# Altium footprint library EwgHybrid.PCBLIB: 18 footprints (part 1 of 2)
Each footprint in its own frame and in the unit in brackets; x right, y up, seen from the top. Pads: shape width x height; smd on the part's side, far side on the other; paste and mask are expansions set on the pad; w line width, h text height; cw(c..) or ccw(c..) is an arc to the next point about the centre after c.
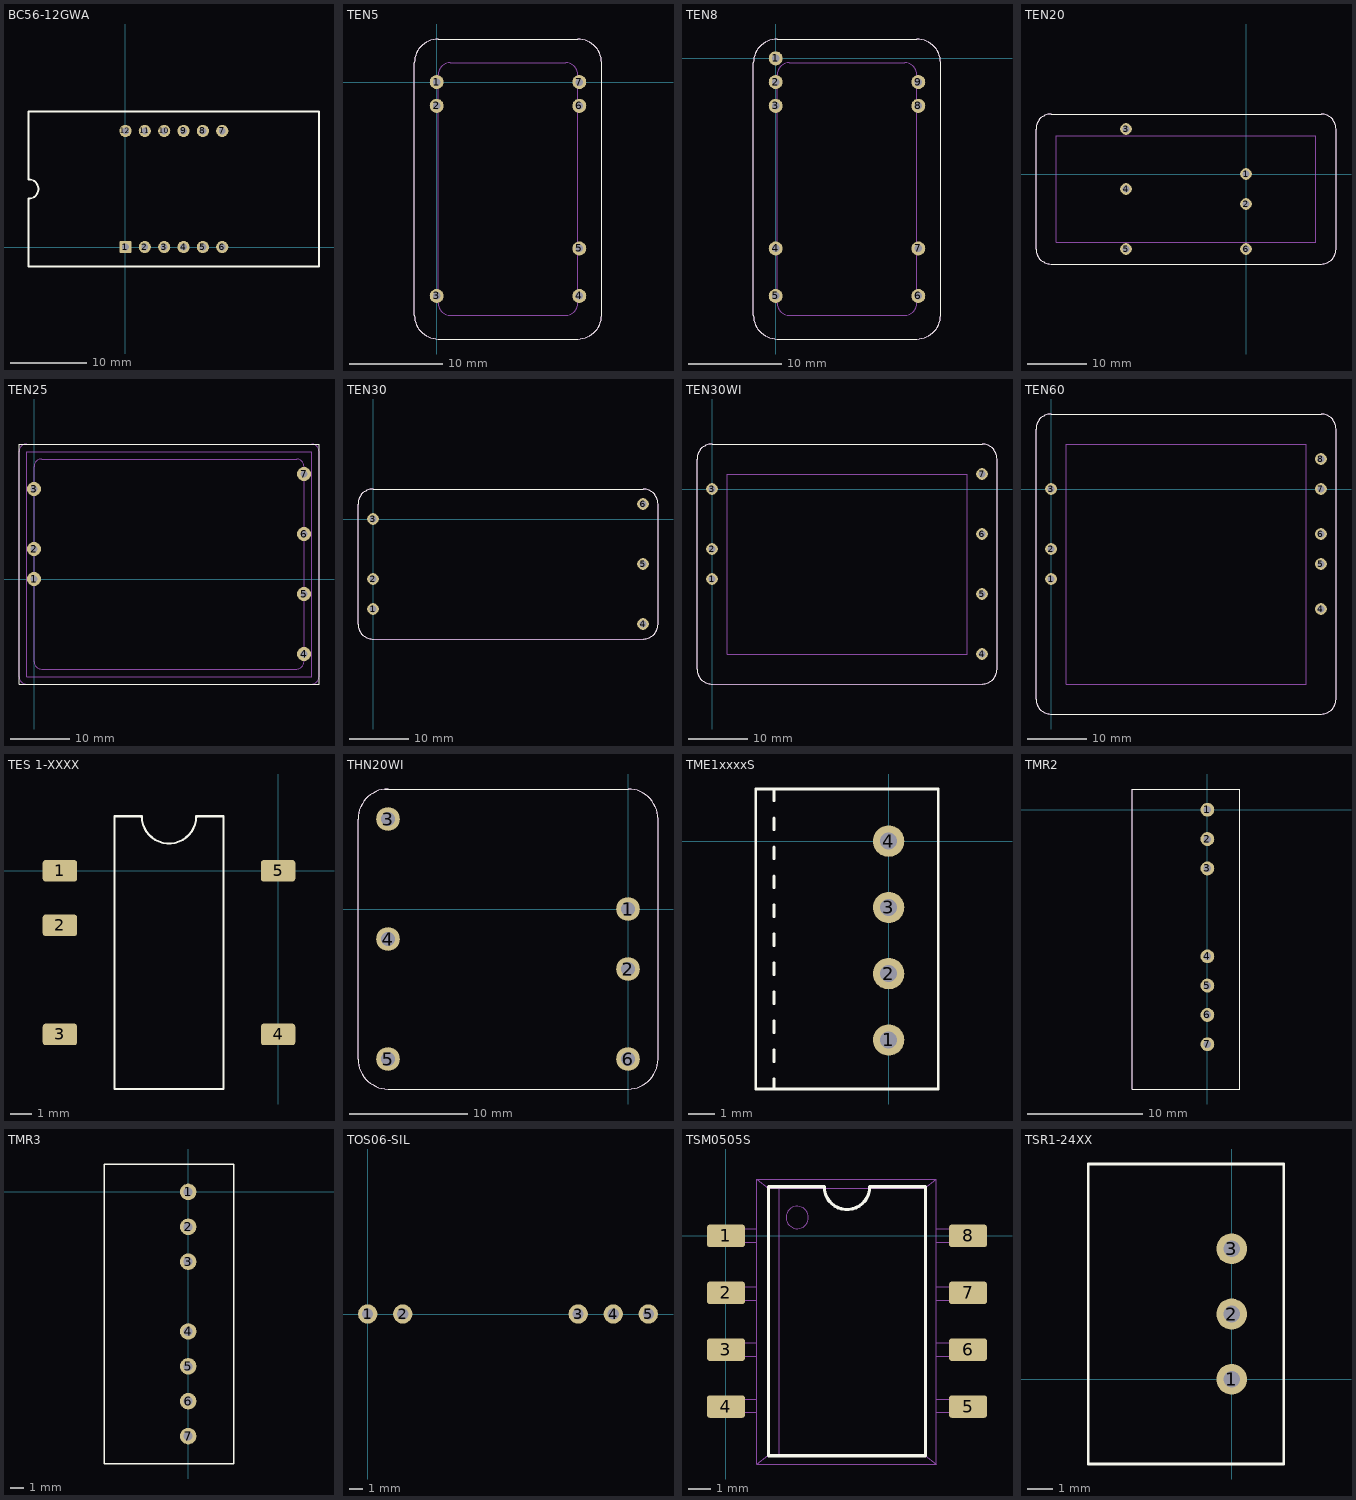
[diagram p0: the footprints below, top view; thin cyan lines are the x and y axes]

## BC56-12GWA [mm]
pads (12):
  rrect25% 1.6x1.6 hole 0.9: 1(0,0)
  round 1.6 hole 0.9: 2(2.54,0) 3(5.08,0) 4(7.62,0) 5(10.16,0) 6(12.7,0) 7(12.7,15.24) 8(10.16,15.24) 9(7.62,15.24) 10(5.08,15.24) 11(2.54,15.24) 12(0,15.24)
Top Overlay:
  lines w0.254: -12.7,-2.54 -12.7,6.35 ccw(c-12.7,7.62) -12.7,8.89 -12.7,17.78 25.4,17.78 25.4,-2.54 -12.7,-2.54

## TEN5 [mm]
pads (7):
  round 1.5 hole 0.8: 1(0,0) 2(0,-2.54) 3(0,-22.86) 4(15.24,-22.86) 5(15.24,-17.78) 6(15.24,-2.54) 7(15.24,0)
Top Overlay:
  lines w0.1: -2.381,-24.924 ccw(c0.159,-24.924) 0.159,-27.464 15.081,-27.464 ccw(c15.081,-24.924) 17.621,-24.924 17.621,2.064 ccw(c15.081,2.064) 15.081,4.604 0.159,4.604 ccw(c0.159,2.064) -2.381,2.064 -2.381,-24.924
Mechanical 1:
  lines w0.05: -2.381,-24.924 ccw(c0.159,-24.924) 0.159,-27.464 15.081,-27.464 ccw(c15.081,-24.924) 17.621,-24.924 17.621,2.064 ccw(c15.081,2.064) 15.081,4.604 0.159,4.604 ccw(c0.159,2.064) -2.381,2.064 -2.381,-24.924 ; 0.159,-23.654 ccw(c1.429,-23.654) 1.429,-24.924 13.811,-24.924 ccw(c13.811,-23.654) 15.081,-23.654 15.081,0.794 ccw(c13.811,0.794) 13.811,2.064 1.429,2.064 ccw(c1.429,0.794) 0.159,0.794 0.159,-23.654
  text "TRACO" at 7.322,-16.226 h3.17
  text "POWER" at 10.795,-16.226 h3.17
3D body: height 10.06, standoff -2, extent -2.4,-27.4 17.6,4.6

## TEN8 [mm]
pads (9):
  round 1.5 hole 0.8: 1(0,0) 2(0,-2.54) 3(0,-5.08) 4(0,-20.32) 5(0,-25.4) 6(15.24,-25.4) 7(15.24,-20.32) 8(15.24,-5.08) 9(15.24,-2.54)
Top Overlay:
  lines w0.1: -2.381,-27.464 ccw(c0.159,-27.464) 0.159,-30.004 15.081,-30.004 ccw(c15.081,-27.464) 17.621,-27.464 17.621,-0.476 ccw(c15.081,-0.476) 15.081,2.064 0.159,2.064 ccw(c0.159,-0.476) -2.381,-0.476 -2.381,-27.464
Mechanical 1:
  lines w0.05: -2.381,-27.464 ccw(c0.159,-27.464) 0.159,-30.004 15.081,-30.004 ccw(c15.081,-27.464) 17.621,-27.464 17.621,-0.476 ccw(c15.081,-0.476) 15.081,2.064 0.159,2.064 ccw(c0.159,-0.476) -2.381,-0.476 -2.381,-27.464 ; 0.159,-26.194 ccw(c1.429,-26.194) 1.429,-27.464 13.811,-27.464 ccw(c13.811,-26.194) 15.081,-26.194 15.081,-1.746 ccw(c13.811,-1.746) 13.811,-0.476 1.429,-0.476 ccw(c1.429,-1.746) 0.159,-1.746 0.159,-26.194
  text "TRACO" at 7.322,-18.766 h3.17
  text "POWER" at 10.795,-18.766 h3.17

## TEN20 [mm]
pads (6):
  round 2 hole 1.2: 1(0,0) 2(0,-5.08) 3(-20.32,7.62) 4(-20.32,-2.54) 5(-20.32,-12.7) 6(0,-12.7)
Top Overlay:
  lines w0.1: -35.56,-12.7 ccw(c-33.02,-12.7) -33.02,-15.24 12.7,-15.24 ccw(c12.7,-12.7) 15.24,-12.7 15.24,7.62 ccw(c12.7,7.62) 12.7,10.16 -33.02,10.16 ccw(c-33.02,7.62) -35.56,7.62 -35.56,-12.7
Mechanical 1:
  lines w0.05: -35.56,-12.7 ccw(c-33.02,-12.7) -33.02,-15.24 12.7,-15.24 ccw(c12.7,-12.7) 15.24,-12.7 15.24,7.62 ccw(c12.7,7.62) 12.7,10.16 -33.02,10.16 ccw(c-33.02,7.62) -35.56,7.62 -35.56,-12.7 ; -32.16,-11.54 -32.16,6.46 11.84,6.46 11.84,-11.54 -32.16,-11.54
  text "TRACO POWER" at -16.16,1.741 h3
  text "TEN20" at -16.16,-1.54 h3
3D body: height 10.21, standoff -6, extent -35.56,-15.24 15.24,10.16

## TEN25 [mm]
pads (7):
  round 2.4 hole 1.2: 1(0,0) 2(0,5.08) 3(0,15.24) 4(45.72,-12.7) 5(45.72,-2.54) 6(45.72,7.62) 7(45.72,17.78)
Top Overlay:
  lines w0.1: -2.54,-17.78 48.26,-17.78 48.26,22.86 -2.54,22.86 -2.54,-17.78
Mechanical 1:
  lines w0.05: -2.54,-16.51 ccw(c-1.27,-16.51) -1.27,-17.78 46.99,-17.78 ccw(c46.99,-16.51) 48.26,-16.51 48.26,21.59 ccw(c46.99,21.59) 46.99,22.86 -1.27,22.86 ccw(c-1.27,21.59) -2.54,21.59 -2.54,-16.51 ; -1.27,-16.51 46.99,-16.51 46.99,21.59 -1.27,21.59 -1.27,-16.51 ; 0,-13.97 ccw(c1.27,-13.97) 1.27,-15.24 44.45,-15.24 ccw(c44.45,-13.97) 45.72,-13.97 45.72,19.05 ccw(c44.45,19.05) 44.45,20.32 1.27,20.32 ccw(c1.27,19.05) 0,19.05 0,-13.97
  text "POWER" at 14.718,6.843 h5
  text "TRACO" at 14.718,12.311 h5

## TEN30 [mm]
pads (6):
  round 2 hole 1.2: 1(0,-15.24) 2(0,-10.16) 3(0,0) 4(45.72,-17.78) 5(45.72,-7.62) 6(45.72,2.54)
Top Overlay:
  lines w0.1: 45.72,-20.32 ccw(c45.72,-17.78) 48.26,-17.78 48.26,2.54 ccw(c45.72,2.54) 45.72,5.08 0,5.08 ccw(c0,2.54) -2.54,2.54 -2.54,-17.78 ccw(c0,-17.78) 0,-20.32 45.72,-20.3
Mechanical 1:
  lines w0.05: -2.54,-17.78 ccw(c0,-17.78) 0,-20.32 45.72,-20.32 ccw(c45.72,-17.78) 48.26,-17.78 48.26,2.54 ccw(c45.72,2.54) 45.72,5.08 0,5.08 ccw(c0,2.54) -2.54,2.54 -2.54,-17.78
  text "TEN 30" at 10.16,-7.62 h3
  text "TRACO POWER" at 10.16,-4.339 h3
3D body: height 10.2, standoff -5.6, extent -2.54,-20.47 48.26,5.23

## TEN30WI [mm]
pads (7):
  round 2 hole 1.2: 1(0,-15.24) 2(0,-10.16) 3(0,0) 4(45.72,-27.94) 5(45.72,-17.78) 6(45.72,-7.62) 7(45.72,2.54)
Top Overlay:
  lines w0.1: 45.72,-33.02 ccw(c45.72,-30.48) 48.26,-30.48 48.26,5.08 ccw(c45.72,5.08) 45.72,7.62 0,7.62 ccw(c0,5.08) -2.54,5.08 -2.54,-30.48 ccw(c0,-30.48) 0,-33.02 45.72,-33
Mechanical 1:
  lines w0.05: -2.54,-30.48 ccw(c0,-30.48) 0,-33.02 45.72,-33.02 ccw(c45.72,-30.48) 48.26,-30.48 48.26,5.08 ccw(c45.72,5.08) 45.72,7.62 0,7.62 ccw(c0,5.08) -2.54,5.08 -2.54,-30.48
  lines w0.1: 2.54,-27.94 2.54,2.54 43.18,2.54 43.18,-27.94 2.54,-27.94
  text "TRACO POWER" at 10.16,-4.339 h3
  text "TEN 30WI" at 10.16,-7.62 h3

## TEN60 [mm]
pads (8):
  round 2 hole 1.2: 1(0.01,-15.24) 2(0.01,-10.16) 3(0.01,0) 4(45.71,-20.32) 5(45.71,-12.7) 6(45.71,-7.62) 7(45.71,0) 8(45.71,5.08)
Top Overlay:
  lines w0.1: -2.54,-35.56 ccw(c0,-35.56) 0,-38.1 45.72,-38.1 ccw(c45.72,-35.56) 48.26,-35.56 48.26,10.16 ccw(c45.72,10.16) 45.72,12.7 0,12.7 ccw(c0,10.16) -2.54,10.16 -2.54,-35.56
Mechanical 1:
  lines w0.05: -2.54,-35.56 ccw(c0,-35.56) 0,-38.1 45.72,-38.1 ccw(c45.72,-35.56) 48.26,-35.56 48.26,10.16 ccw(c45.72,10.16) 45.72,12.7 0,12.7 ccw(c0,10.16) -2.54,10.16 -2.54,-35.56 ; 2.54,-33.02 43.18,-33.02 43.18,7.62 2.54,7.62 2.54,-33.02
  text "TEN60" at 10.16,-2.54 h3
  text "TRACO POWER" at 10.16,0.741 h3

## TES 1-XXXX [mm]
pads (5):
  rrect25% 1.6x1 smd: 1(-10.16,0) 2(-10.16,-2.54) 3(-10.16,-7.62) 4(0,-7.62) 5(0,0)
Top Overlay:
  lines w0.1: -7.62,-10.16 -2.54,-10.16 -2.54,2.54 -3.81,2.54 cw(c-5.08,2.54) -6.35,2.54 -7.62,2.54 -7.62,-10.16
3D body: height 7.05, standoff 0, extent -10.58,-10.66 0.42,3.04

## THN20WI [mm]
height 10.2
pads (6):
  round 2 hole 1.2: 1(0,0) 2(0,-5.08) 3(-20.32,7.62) 4(-20.32,-2.54) 5(-20.32,-12.7) 6(0,-12.7)
Top Overlay:
  lines w0.1: -20.575,10.16 0,10.16 cw(c0,7.62) 2.54,7.62 2.54,-12.7 cw(c0,-12.7) 0,-15.24 -20.32,-15.24 cw(c-20.32,-12.7) -22.86,-12.7 -22.86,7.62 cw(c-20.32,7.62) -20.32,10.16
Mechanical 1:
  lines w0.05: -22.86,-12.7 ccw(c-20.32,-12.7) -20.32,-15.24 ; -22.86,7.62 cw(c-20.32,7.62) -20.32,10.16
  lines w0.1: -20.575,10.16 0,10.16 cw(c0,7.62) 2.54,7.62 2.54,-12.7 cw(c0,-12.7) 0,-15.24 -20.32,-15.24 cw(c-20.32,-12.7) -22.86,-12.7 -22.86,7.62 cw(c-20.32,7.62) -20.32,10.16
  text "TRACO PWR" at -17.025,3.475 h3
  text "THN20" at -17.15,-2.325 h5
  text "1\"x1\"" at -16.725,-13.45 h2.5
3D body: height 10.21, standoff -4.8, extent -22.86,-15.24 2.54,10.16

## TME1xxxxS [mm] "SIP4"
height 10.5
pads (4):
  round 1.2 hole 0.65: 1(0,-7.62) 2(0,-5.08) 3(0,-2.54) 4(0,0)
Top Overlay:
  lines w0.1: -4.394,-9.5 -4.394,-9.11 ; -4.394,-8.45 -4.394,-7.999 ; -4.394,-7.339 -4.394,-6.888 ; -4.394,-6.228 -4.394,-5.777 ; -4.394,-5.117 -4.394,-4.666 ; -4.394,-4.006 -4.394,-3.555 ; -4.394,-2.895 -4.394,-2.444 ; -4.394,-1.784 -4.394,-1.333 ; -4.394,-0.673 -4.394,-0.222 ; -4.394,0.438 -4.394,0.889 ; -4.394,1.549 -4.394,2 ; -5.1,-9.5 1.905,-9.5 1.905,2 -5.1,2 -5.1,-9.5
Mechanical 1:
  lines w0.05: -5.1,-9.5 -5.1,2 1.905,2 1.905,-9.5 -5.1,-9.5
3D body: height 10.21, standoff -3.19, extent -4.345,-9.519 1.755,1.981

## TMR2 [mm]
pads (7):
  round 1.2 hole 0.65: 1(0,0) 2(0,-2.54) 3(0,-5.08) 4(0,-12.7) 5(0,-15.24) 6(0,-17.78) 7(0,-20.32)
Top Overlay:
  lines w0.1: -6.5,-24.2 2.8,-24.2 2.8,1.8 -6.5,1.8 -6.5,-24.2
Mechanical 1:
  lines w0.05: -6.5,-24.2 0,-24.2 2.8,-24.2 2.8,1.8 -6.5,1.8 -6.5,0 -6.5,-24.2

## TMR3 [mm]
pads (7):
  round 1.2 hole 0.65: 1(0,0) 2(0,-2.54) 3(0,-5.08) 4(0,-10.16) 5(0,-12.7) 6(0,-15.24) 7(0,-17.78)
Top Overlay:
  lines w0.1: -6.096,-19.812 -6.096,2.032 3.302,2.032 3.302,-19.812 -6.096,-19.812
3D body: height 10, standoff -4, extent -6.096,-19.79 3.304,2.01

## TOS06-SIL [mm]
height 12
pads (5):
  round 1.4 hole 0.8: 1(0,0) 2(2.54,0) 3(15.24,0) 4(17.78,0) 5(20.32,0)

## TSM0505S [mm]
pads (8):
  rrect25% 1.7x1 smd: 1(0,0) 2(0,-2.54) 3(0,-5.08) 4(0,-7.62) 5(10.8,-7.62) 6(10.8,-5.08) 7(10.8,-2.54) 8(10.8,0)
Top Overlay:
  lines w0.15: 1.9,-9.81 8.9,-9.81 8.9,2.19 6.416,2.19 cw(c5.4,2.19) 4.384,2.19 1.9,2.19 1.9,-9.81
Mechanical 1:
  circle w0.05: c3.18,0.82 r0.5
  lines w0.05: 1.38,-7.88 -0.12,-7.88 -0.12,-7.28 1.38,-7.28 ; 1.38,-5.38 -0.12,-5.38 -0.12,-4.78 1.38,-4.78 ; 1.38,-2.88 -0.12,-2.88 -0.12,-2.28 1.38,-2.28 ; 1.38,-0.28 -0.12,-0.28 -0.12,0.32 1.38,0.32 ; 2.38,-9.78 2.38,2.12 ; 9.38,-7.88 10.88,-7.88 10.88,-7.28 9.38,-7.28 ; 9.38,-5.38 10.88,-5.38 10.88,-4.78 9.38,-4.78 ; 9.38,-2.88 10.88,-2.88 10.88,-2.28 9.38,-2.28 ; 9.38,-0.28 10.88,-0.28 10.88,0.32 9.38,0.32 ; 1.38,-10.18 9.38,-10.18 ; 1.38,-10.18 1.38,2.52 ; 1.38,-10.18 1.88,-9.78 ; 1.38,2.52 9.38,2.52 ; 1.38,2.52 1.88,2.12 ; 1.88,-9.78 8.88,-9.78 ; 1.88,-9.78 1.88,2.12 ; 1.88,2.12 8.88,2.12 ; 8.88,-9.78 8.88,2.12 ; 8.88,-9.78 9.38,-10.18 ; 8.88,2.12 9.38,2.52 ; 9.38,-10.18 9.38,2.52

## TSR1-24XX [mm] "SIP3"
height 10.5
pads (3):
  round 1.2 hole 0.65: 1(0,0) 2(0,2.54) 3(0,5.08)
Top Overlay:
  lines w0.1: -5.588,-3.3 2.032,-3.3 2.032,8.382 -5.588,8.382 -5.588,-3.3
Mechanical 1:
  lines w0.05: -5.588,-3.3 -5.588,8.38 2.032,8.38 2.032,-3.3 -5.588,-3.3
3D body: height 10.15, standoff -4.05, extent -5.528,-3.31 1.972,8.39